# Altium integrated library Micron Memory DDR SDRAM.IntLib: 109 symbols (part 15 of 22)
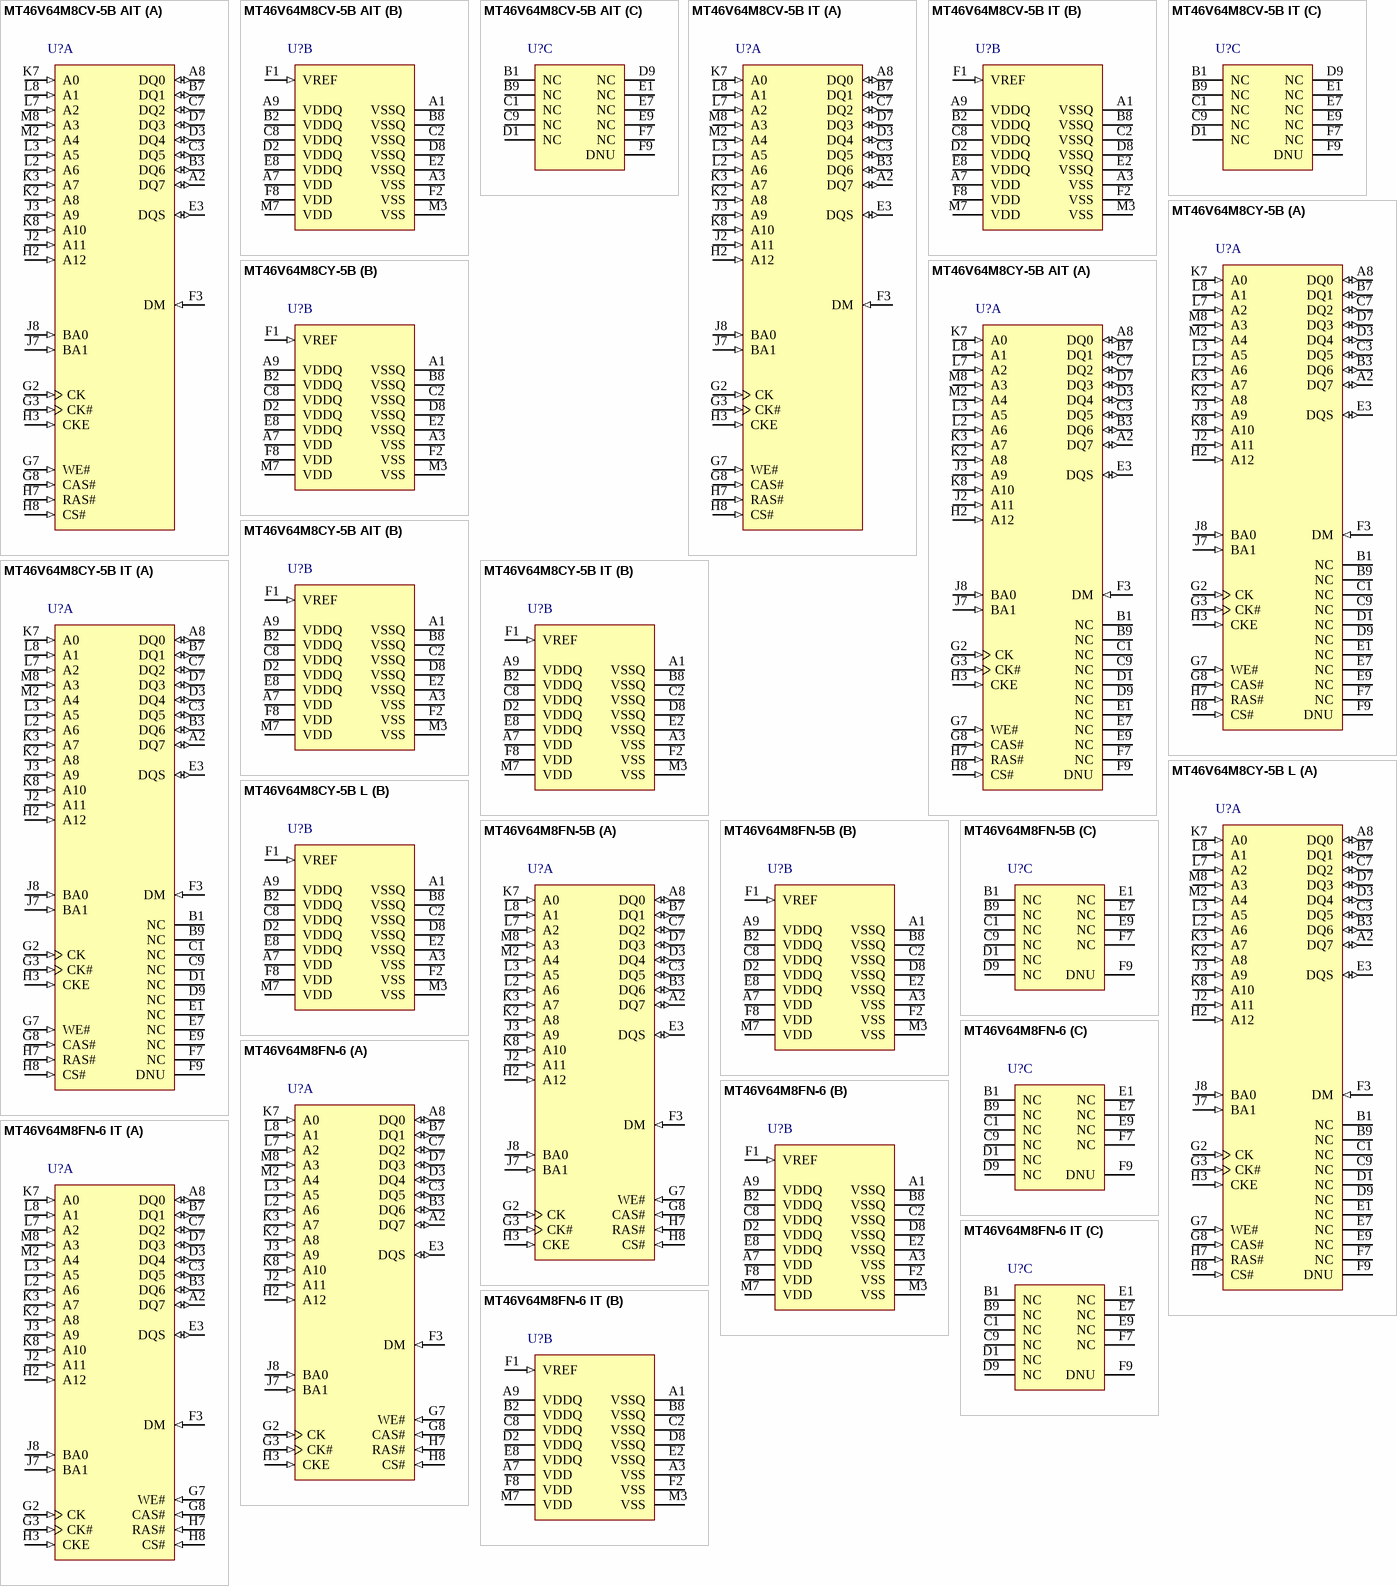
[diagram p27: symbols MT46V64M8CV-5B AIT to MT46V64M8FN-6 IT]

## MT46V64M8CY-5B IT
designator U?
512Mb 200MHz DDR SDRAM, 64Mb x 8, 5ns, 2.5V, -40 to 85 degC, 60-Ball FBGA, Pb-Free; Manufacturer: Micron; PartNumber: MT46V64M8CY-5B IT; Op. Temp.: -40C to +85C; DatasheetVersion: Rev.Q; PackageVersion: Rev.R; PackageReference: MICT-CY-60; PackageDescription: 60-Ball Fine-Pitch Ball Grid Array, 12.5 x 8 mm, Pitch 1 mm; Clock Rate: 200 MHz; Cycle Time: 5ns; Density: 512Mb; Depth: 64Mb; Package: FBGA; Part Status: Production; Pin Count: 60-ball; RoHS: Yes; Voltage: 2.5V; Width: x8; Mounting Technology: Surface Mount; ComponentLink1Description: Manufacturer URL; ComponentLink1URL: http://www.micron.com/; ComponentLink2Description: Datasheet; ComponentLink2URL: http://www.micron.com/~/media/Documents/Products/Data Sheet/DRAM/512Mb_DDR.pdf; ComponentLink3Description: Package Specification; ComponentLink3URL: http://www.micron.com/~/media/Documents/Products/Data%20Sheet/DRAM/256Mb_DDR.pdf
footprint MICT-CY-60 (BGA, 60-Balls, Body 12.5x8mm, Pitch(D) 1mm, Pitch(E) 0.8mm)
part A pins: A2 DQ7 (io) "Data input/output: Data bus for x8.", A8 DQ0 (io) "Data input/output: Data bus for x8.", B1 NC "No connect for x8: These pins should be left unconnected.", B3 DQ6 (io) "Data input/output: Data bus for x8.", B7 DQ1 (io) "Data input/output: Data bus for x8.", B9 NC "No connect for x8: These pins should be left unconnected.", C1 NC "No connect for x8: These pins should be left unconnected.", C3 DQ5 (io) "Data input/output: Data bus for x8.", C7 DQ2 (io) "Data input/output: Data bus for x8.", C9 NC "No connect for x8: These pins should be left unconnected.", D1 NC "No connect for x8: These pins should be left unconnected.", D3 DQ4 (io) "Data input/output: Data bus for x8.", D7 DQ3 (io) "Data input/output: Data bus for x8.", D9 NC "No connect for x8: These pins should be left unconnected.", E1 NC "No connect for x8: These pins should be left unconnected.", E3 DQS (io) "Data strobe: Output with read data, input with write data. DQS is edgealigned with read data, centered in write data. It is used to capture data. For the x16, LDQS is DQS for DQ[7:0] and UDQS is DQS for DQ[15:8]. Pin16 (E7) (See Datasheet)", E7 NC "No connect for x8: These pins should be left unconnected.", E9 NC "No connect for x8: These pins should be left unconnected.", F3 DM (in) "Input data mask: DM is an input mask signal for write data. Input data is masked when DM is sampled HIGH along with that input data during a write access. DM is sampled on both edges of DQS. Although DM pins are input-only, (See Datasheet)", F7 NC "No connect for x8: These pins should be left unconnected.", F9 DNU "Do not use: Must float to minimize noise on VREF.", G2 CK (in) "Clock: CK and CK# are differential clock inputs. All address and control input signals are sampled on the crossing of the positive edge of CK and negative edge of CK#. Output data (DQ and DQS) is referenced to the crossings (See Datasheet)", G3 CK# (in) "Clock: CK and CK# are differential clock inputs. All address and control input signals are sampled on the crossing of the positive edge of CK and negative edge of CK#. Output data (DQ and DQS) is referenced to the crossings (See Datasheet)", G7 WE# (in) "Command inputs: RAS#, CAS#, and WE# (along with CS#) define the command being entered.", G8 CAS# (in) "Command inputs: RAS#, CAS#, and WE# (along with CS#) define the command being entered.", H2 A12 (in) "Address inputs: Provide the row address for ACTIVE commands, and the column address and auto precharge bit (A10) for READ/WRITE commands, to select one location out of the memory array in the respective bank. A10 sampled (See Datasheet)", H3 CKE (in) "Clock enable: CKE HIGH activates and CKE LOW deactivates the internal clock, input buffers, and output drivers. Taking CKE LOW provides PRECHARGE POWER-DOWN and SELF REFRESH operations (all banksidle), or ACTIVE POWER-DOWN (See Datasheet)", H7 RAS# (in) "Command inputs: RAS#, CAS#, and WE# (along with CS#) define the command being entered.", H8 CS# (in) "Chip select: CS# enables (registered LOW) and disables (registered HIGH) the command decoder. All commands are masked when CS# is registered HIGH. CS# provides for external bank selection on systems with multiple banks. CS# (See Datasheet)", J2 A11 (in) "Address inputs: Provide the row address for ACTIVE commands, and the column address and auto precharge bit (A10) for READ/WRITE commands, to select one location out of the memory array in the respective bank. A10 sampled (See Datasheet)", J3 A9 (in) "Address inputs: Provide the row address for ACTIVE commands, and the column address and auto precharge bit (A10) for READ/WRITE commands, to select one location out of the memory array in the respective bank. A10 sampled (See Datasheet)", J7 BA1 (in) "Bank address inputs: BA0 and BA1 define to which bank an ACTIVE, READ, WRITE, or PRECHARGE command is being applied. BA0 and BA1 also define which mode register (mode register or extended mode register) is loaded during the (See Datasheet)", J8 BA0 (in) "Bank address inputs: BA0 and BA1 define to which bank an ACTIVE, READ, WRITE, or PRECHARGE command is being applied. BA0 and BA1 also define which mode register (mode register or extended mode register) is loaded during the (See Datasheet)", K2 A8 (in) "Address inputs: Provide the row address for ACTIVE commands, and the column address and auto precharge bit (A10) for READ/WRITE commands, to select one location out of the memory array in the respective bank. A10 sampled (See Datasheet)", K3 A7 (in) "Address inputs: Provide the row address for ACTIVE commands, and the column address and auto precharge bit (A10) for READ/WRITE commands, to select one location out of the memory array in the respective bank. A10 sampled (See Datasheet)", K7 A0 (in) "Address inputs: Provide the row address for ACTIVE commands, and the column address and auto precharge bit (A10) for READ/WRITE commands, to select one location out of the memory array in the respective bank. A10 sampled (See Datasheet)", K8 A10 (in) "Address inputs: Provide the row address for ACTIVE commands, and the column address and auto precharge bit (A10) for READ/WRITE commands, to select one location out of the memory array in the respective bank. A10 sampled (See Datasheet)", L2 A6 (in) "Address inputs: Provide the row address for ACTIVE commands, and the column address and auto precharge bit (A10) for READ/WRITE commands, to select one location out of the memory array in the respective bank. A10 sampled (See Datasheet)", L3 A5 (in) "Address inputs: Provide the row address for ACTIVE commands, and the column address and auto precharge bit (A10) for READ/WRITE commands, to select one location out of the memory array in the respective bank. A10 sampled (See Datasheet)", L7 A2 (in) "Address inputs: Provide the row address for ACTIVE commands, and the column address and auto precharge bit (A10) for READ/WRITE commands, to select one location out of the memory array in the respective bank. A10 sampled (See Datasheet)", L8 A1 (in) "Address inputs: Provide the row address for ACTIVE commands, and the column address and auto precharge bit (A10) for READ/WRITE commands, to select one location out of the memory array in the respective bank. A10 sampled (See Datasheet)", M2 A4 (in) "Address inputs: Provide the row address for ACTIVE commands, and the column address and auto precharge bit (A10) for READ/WRITE commands, to select one location out of the memory array in the respective bank. A10 sampled (See Datasheet)", M8 A3 (in) "Address inputs: Provide the row address for ACTIVE commands, and the column address and auto precharge bit (A10) for READ/WRITE commands, to select one location out of the memory array in the respective bank. A10 sampled (See Datasheet)"
part B pins: A1 VSSQ (power) "DQ ground: Isolated on the die for improved noise immunity.", A3 VSS (power) "Ground.", A7 VDD (power) "Power supply: 2.5V +/-0.2V. (2.6V +/-0.1V for DDR400).", A9 VDDQ (power) "DQ power supply: 2.5V +/-0.2V (2.6V +/-0.1V for DDR400). Isolated on the die for improved noise immunity.", B2 VDDQ (power) "DQ power supply: 2.5V +/-0.2V (2.6V +/-0.1V for DDR400). Isolated on the die for improved noise immunity.", B8 VSSQ (power) "DQ ground: Isolated on the die for improved noise immunity.", C2 VSSQ (power) "DQ ground: Isolated on the die for improved noise immunity.", C8 VDDQ (power) "DQ power supply: 2.5V +/-0.2V (2.6V +/-0.1V for DDR400). Isolated on the die for improved noise immunity.", D2 VDDQ (power) "DQ power supply: 2.5V +/-0.2V (2.6V +/-0.1V for DDR400). Isolated on the die for improved noise immunity.", D8 VSSQ (power) "DQ ground: Isolated on the die for improved noise immunity.", E2 VSSQ (power) "DQ ground: Isolated on the die for improved noise immunity.", E8 VDDQ (power) "DQ power supply: 2.5V +/-0.2V (2.6V +/-0.1V for DDR400). Isolated on the die for improved noise immunity.", F1 VREF (in) "SSTL_2 reference voltage.", F2 VSS (power) "Ground.", F8 VDD (power) "Power supply: 2.5V +/-0.2V. (2.6V +/-0.1V for DDR400).", M3 VSS (power) "Ground.", M7 VDD (power) "Power supply: 2.5V +/-0.2V. (2.6V +/-0.1V for DDR400)."

## MT46V64M8CY-5B L
designator U?
512Mb 200MHz DDR SDRAM, 64Mb x 8, 5ns, 2.5V, 0 to 70 degC, 60-Ball FBGA, Pb-Free; Manufacturer: Micron; PartNumber: MT46V64M8CY-5B L; Op. Temp.: 0C to +70C; DatasheetVersion: Rev.Q; PackageVersion: Rev.R; PackageReference: MICT-CY-60; PackageDescription: 60-Ball Fine-Pitch Ball Grid Array, 12.5 x 8 mm, Pitch 1 mm; Clock Rate: 200 MHz; Cycle Time: 5ns; Density: 512Mb; Depth: 64Mb; Package: FBGA; Part Status: Production; Pin Count: 60-ball; RoHS: Yes; Voltage: 2.5V; Width: x8; Mounting Technology: Surface Mount; ComponentLink1Description: Manufacturer URL; ComponentLink1URL: http://www.micron.com/; ComponentLink2Description: Datasheet; ComponentLink2URL: http://www.micron.com/~/media/Documents/Products/Data Sheet/DRAM/512Mb_DDR.pdf; ComponentLink3Description: Package Specification; ComponentLink3URL: http://www.micron.com/~/media/Documents/Products/Data%20Sheet/DRAM/256Mb_DDR.pdf
footprint MICT-CY-60 (BGA, 60-Balls, Body 12.5x8mm, Pitch(D) 1mm, Pitch(E) 0.8mm)
part A pins: A2 DQ7 (io) "Data input/output: Data bus for x8.", A8 DQ0 (io) "Data input/output: Data bus for x8.", B1 NC "No connect for x8: These pins should be left unconnected.", B3 DQ6 (io) "Data input/output: Data bus for x8.", B7 DQ1 (io) "Data input/output: Data bus for x8.", B9 NC "No connect for x8: These pins should be left unconnected.", C1 NC "No connect for x8: These pins should be left unconnected.", C3 DQ5 (io) "Data input/output: Data bus for x8.", C7 DQ2 (io) "Data input/output: Data bus for x8.", C9 NC "No connect for x8: These pins should be left unconnected.", D1 NC "No connect for x8: These pins should be left unconnected.", D3 DQ4 (io) "Data input/output: Data bus for x8.", D7 DQ3 (io) "Data input/output: Data bus for x8.", D9 NC "No connect for x8: These pins should be left unconnected.", E1 NC "No connect for x8: These pins should be left unconnected.", E3 DQS (io) "Data strobe: Output with read data, input with write data. DQS is edgealigned with read data, centered in write data. It is used to capture data. For the x16, LDQS is DQS for DQ[7:0] and UDQS is DQS for DQ[15:8]. Pin16 (E7) (See Datasheet)", E7 NC "No connect for x8: These pins should be left unconnected.", E9 NC "No connect for x8: These pins should be left unconnected.", F3 DM (in) "Input data mask: DM is an input mask signal for write data. Input data is masked when DM is sampled HIGH along with that input data during a write access. DM is sampled on both edges of DQS. Although DM pins are input-only, (See Datasheet)", F7 NC "No connect for x8: These pins should be left unconnected.", F9 DNU "Do not use: Must float to minimize noise on VREF.", G2 CK (in) "Clock: CK and CK# are differential clock inputs. All address and control input signals are sampled on the crossing of the positive edge of CK and negative edge of CK#. Output data (DQ and DQS) is referenced to the crossings (See Datasheet)", G3 CK# (in) "Clock: CK and CK# are differential clock inputs. All address and control input signals are sampled on the crossing of the positive edge of CK and negative edge of CK#. Output data (DQ and DQS) is referenced to the crossings (See Datasheet)", G7 WE# (in) "Command inputs: RAS#, CAS#, and WE# (along with CS#) define the command being entered.", G8 CAS# (in) "Command inputs: RAS#, CAS#, and WE# (along with CS#) define the command being entered.", H2 A12 (in) "Address inputs: Provide the row address for ACTIVE commands, and the column address and auto precharge bit (A10) for READ/WRITE commands, to select one location out of the memory array in the respective bank. A10 sampled (See Datasheet)", H3 CKE (in) "Clock enable: CKE HIGH activates and CKE LOW deactivates the internal clock, input buffers, and output drivers. Taking CKE LOW provides PRECHARGE POWER-DOWN and SELF REFRESH operations (all banksidle), or ACTIVE POWER-DOWN (See Datasheet)", H7 RAS# (in) "Command inputs: RAS#, CAS#, and WE# (along with CS#) define the command being entered.", H8 CS# (in) "Chip select: CS# enables (registered LOW) and disables (registered HIGH) the command decoder. All commands are masked when CS# is registered HIGH. CS# provides for external bank selection on systems with multiple banks. CS# (See Datasheet)", J2 A11 (in) "Address inputs: Provide the row address for ACTIVE commands, and the column address and auto precharge bit (A10) for READ/WRITE commands, to select one location out of the memory array in the respective bank. A10 sampled (See Datasheet)", J3 A9 (in) "Address inputs: Provide the row address for ACTIVE commands, and the column address and auto precharge bit (A10) for READ/WRITE commands, to select one location out of the memory array in the respective bank. A10 sampled (See Datasheet)", J7 BA1 (in) "Bank address inputs: BA0 and BA1 define to which bank an ACTIVE, READ, WRITE, or PRECHARGE command is being applied. BA0 and BA1 also define which mode register (mode register or extended mode register) is loaded during the (See Datasheet)", J8 BA0 (in) "Bank address inputs: BA0 and BA1 define to which bank an ACTIVE, READ, WRITE, or PRECHARGE command is being applied. BA0 and BA1 also define which mode register (mode register or extended mode register) is loaded during the (See Datasheet)", K2 A8 (in) "Address inputs: Provide the row address for ACTIVE commands, and the column address and auto precharge bit (A10) for READ/WRITE commands, to select one location out of the memory array in the respective bank. A10 sampled (See Datasheet)", K3 A7 (in) "Address inputs: Provide the row address for ACTIVE commands, and the column address and auto precharge bit (A10) for READ/WRITE commands, to select one location out of the memory array in the respective bank. A10 sampled (See Datasheet)", K7 A0 (in) "Address inputs: Provide the row address for ACTIVE commands, and the column address and auto precharge bit (A10) for READ/WRITE commands, to select one location out of the memory array in the respective bank. A10 sampled (See Datasheet)", K8 A10 (in) "Address inputs: Provide the row address for ACTIVE commands, and the column address and auto precharge bit (A10) for READ/WRITE commands, to select one location out of the memory array in the respective bank. A10 sampled (See Datasheet)", L2 A6 (in) "Address inputs: Provide the row address for ACTIVE commands, and the column address and auto precharge bit (A10) for READ/WRITE commands, to select one location out of the memory array in the respective bank. A10 sampled (See Datasheet)", L3 A5 (in) "Address inputs: Provide the row address for ACTIVE commands, and the column address and auto precharge bit (A10) for READ/WRITE commands, to select one location out of the memory array in the respective bank. A10 sampled (See Datasheet)", L7 A2 (in) "Address inputs: Provide the row address for ACTIVE commands, and the column address and auto precharge bit (A10) for READ/WRITE commands, to select one location out of the memory array in the respective bank. A10 sampled (See Datasheet)", L8 A1 (in) "Address inputs: Provide the row address for ACTIVE commands, and the column address and auto precharge bit (A10) for READ/WRITE commands, to select one location out of the memory array in the respective bank. A10 sampled (See Datasheet)", M2 A4 (in) "Address inputs: Provide the row address for ACTIVE commands, and the column address and auto precharge bit (A10) for READ/WRITE commands, to select one location out of the memory array in the respective bank. A10 sampled (See Datasheet)", M8 A3 (in) "Address inputs: Provide the row address for ACTIVE commands, and the column address and auto precharge bit (A10) for READ/WRITE commands, to select one location out of the memory array in the respective bank. A10 sampled (See Datasheet)"
part B pins: A1 VSSQ (power) "DQ ground: Isolated on the die for improved noise immunity.", A3 VSS (power) "Ground.", A7 VDD (power) "Power supply: 2.5V +/-0.2V. (2.6V +/-0.1V for DDR400).", A9 VDDQ (power) "DQ power supply: 2.5V +/-0.2V (2.6V +/-0.1V for DDR400). Isolated on the die for improved noise immunity.", B2 VDDQ (power) "DQ power supply: 2.5V +/-0.2V (2.6V +/-0.1V for DDR400). Isolated on the die for improved noise immunity.", B8 VSSQ (power) "DQ ground: Isolated on the die for improved noise immunity.", C2 VSSQ (power) "DQ ground: Isolated on the die for improved noise immunity.", C8 VDDQ (power) "DQ power supply: 2.5V +/-0.2V (2.6V +/-0.1V for DDR400). Isolated on the die for improved noise immunity.", D2 VDDQ (power) "DQ power supply: 2.5V +/-0.2V (2.6V +/-0.1V for DDR400). Isolated on the die for improved noise immunity.", D8 VSSQ (power) "DQ ground: Isolated on the die for improved noise immunity.", E2 VSSQ (power) "DQ ground: Isolated on the die for improved noise immunity.", E8 VDDQ (power) "DQ power supply: 2.5V +/-0.2V (2.6V +/-0.1V for DDR400). Isolated on the die for improved noise immunity.", F1 VREF (in) "SSTL_2 reference voltage.", F2 VSS (power) "Ground.", F8 VDD (power) "Power supply: 2.5V +/-0.2V. (2.6V +/-0.1V for DDR400).", M3 VSS (power) "Ground.", M7 VDD (power) "Power supply: 2.5V +/-0.2V. (2.6V +/-0.1V for DDR400)."

## MT46V64M8FN-5B
designator U?
512Mb 200MHz DDR SDRAM, 64Mb x 8, 5ns, 2.6V, 0 to 70 degC, 60-Ball FBGA; Manufacturer: Micron; PartNumber: MT46V64M8FN-5B; Op. Temp.: 0C to +70C; DatasheetVersion: Rev.Q; PackageVersion: Rev.F; PackageReference: MICT-FN-60; PackageDescription: 60-Ball Fine-Pitch Ball Grid Array, 12.5 x 10 mm, Pitch 1 mm; Clock Rate: 200 MHz; Cycle Time: 5ns; Density: 512Mb; Depth: 64Mb; Package: FBGA; Part Status: EOL Pending; Pin Count: 60-ball; RoHS: 5/6; Voltage: 2.6V; Width: x8; Mounting Technology: Surface Mount; ComponentLink1Description: Manufacturer URL; ComponentLink1URL: http://www.micron.com/; ComponentLink2Description: Datasheet; ComponentLink2URL: http://www.micron.com/~/media/Documents/Products/Data Sheet/DRAM/512Mb_DDR.pdf; ComponentLink3Description: Package Specification; ComponentLink3URL: http://www.micron.com/~/media/Documents/Products/Data Sheet/DRAM/512Mb_DDR.pdf
footprint MICT-FN-60 (BGA, 60-Balls, Body 10x12.5mm, Pitch 1mm)
part A pins: A2 DQ7 (io) "Data input/output: Data bus for x8.", A8 DQ0 (io) "Data input/output: Data bus for x8.", B3 DQ6 (io) "Data input/output: Data bus for x8.", B7 DQ1 (io) "Data input/output: Data bus for x8.", C3 DQ5 (io) "Data input/output: Data bus for x8.", C7 DQ2 (io) "Data input/output: Data bus for x8.", D3 DQ4 (io) "Data input/output: Data bus for x8.", D7 DQ3 (io) "Data input/output: Data bus for x8.", E3 DQS (io) "Data strobe: Output with read data, input with write data. DQS is edgealigned with read data, centered in write data. It is used to capture data. For the x16, LDQS is DQS for DQ[7:0] and UDQS is DQS for DQ[15:8]. Pin 16 (E7) (See Datasheet)", F3 DM (in) "Input data mask: DM is an input mask signal for write data. Input data is masked when DM is sampled HIGH along with that input data during a write access. DM is sampled on both edges of DQS. Although DM pins are input-only, (See Datasheet)", G2 CK (in) "Clock: CK and CK# are differential clock inputs. All address and control input signals are sampled on the crossing of the positive edge of CK and negative edge of CK#. Output data (DQ and DQS) is referenced to the crossings (See Datasheet)", G3 CK# (in) "Clock: CK and CK# are differential clock inputs. All address and control input signals are sampled on the crossing of the positive edge of CK and negative edge of CK#. Output data (DQ and DQS) is referenced to the crossings (See Datasheet)", G7 WE# (in) "Command inputs: RAS#, CAS#, and WE# (along with CS#) define the command being entered.", G8 CAS# (in) "Command inputs: RAS#, CAS#, and WE# (along with CS#) define the command being entered.", H2 A12 (in) "Address inputs: Provide the row address for ACTIVE commands, and the column address and auto precharge bit (A10) for READ/WRITE commands, to select one location out of the memory array in the respective bank. A10 sampled (See Datasheet)", H3 CKE (in) "Clock enable: CKE HIGH activates and CKE LOW deactivates the internal clock, input buffers, and output drivers. Taking CKE LOW provides PRECHARGE POWER-DOWN and SELF REFRESH operations (all banks idle), or ACTIVE POWER-DOWN (See Datasheet)", H7 RAS# (in) "Command inputs: RAS#, CAS#, and WE# (along with CS#) define the command being entered.", H8 CS# (in) "Chip select: CS# enables (registered LOW) and disables (registered HIGH) the command decoder. All commands are masked when CS# is registered HIGH. CS# provides for external bank selection on systems with multiple banks. CS# (See Datasheet)", J2 A11 (in) "Address inputs: Provide the row address for ACTIVE commands, and the column address and auto precharge bit (A10) for READ/WRITE commands, to select one location out of the memory array in the respective bank. A10 sampled (See Datasheet)", J3 A9 (in) "Address inputs: Provide the row address for ACTIVE commands, and the column address and auto precharge bit (A10) for READ/WRITE commands, to select one location out of the memory array in the respective bank. A10 sampled (See Datasheet)", J7 BA1 (in) "Bank address inputs: BA0 and BA1 define to which bank an ACTIVE, READ, WRITE, or PRECHARGE command is being applied. BA0 and BA1 also define which mode register (mode register or extended mode register) is loaded during the (See Datasheet)", J8 BA0 (in) "Bank address inputs: BA0 and BA1 define to which bank an ACTIVE, READ, WRITE, or PRECHARGE command is being applied. BA0 and BA1 also define which mode register (mode register or extended mode register) is loaded during the (See Datasheet)", K2 A8 (in) "Address inputs: Provide the row address for ACTIVE commands, and the column address and auto precharge bit (A10) for READ/WRITE commands, to select one location out of the memory array in the respective bank. A10 sampled (See Datasheet)", K3 A7 (in) "Address inputs: Provide the row address for ACTIVE commands, and the column address and auto precharge bit (A10) for READ/WRITE commands, to select one location out of the memory array in the respective bank. A10 sampled (See Datasheet)", K7 A0 (in) "Address inputs: Provide the row address for ACTIVE commands, and the column address and auto precharge bit (A10) for READ/WRITE commands, to select one location out of the memory array in the respective bank. A10 sampled (See Datasheet)", K8 A10 (in) "Address inputs: Provide the row address for ACTIVE commands, and the column address and auto precharge bit (A10) for READ/WRITE commands, to select one location out of the memory array in the respective bank. A10 sampled (See Datasheet)", L2 A6 (in) "Address inputs: Provide the row address for ACTIVE commands, and the column address and auto precharge bit (A10) for READ/WRITE commands, to select one location out of the memory array in the respective bank. A10 sampled (See Datasheet)", L3 A5 (in) "Address inputs: Provide the row address for ACTIVE commands, and the column address and auto precharge bit (A10) for READ/WRITE commands, to select one location out of the memory array in the respective bank. A10 sampled (See Datasheet)", L7 A2 (in) "Address inputs: Provide the row address for ACTIVE commands, and the column address and auto precharge bit (A10) for READ/WRITE commands, to select one location out of the memory array in the respective bank. A10 sampled (See Datasheet)", L8 A1 (in) "Address inputs: Provide the row address for ACTIVE commands, and the column address and auto precharge bit (A10) for READ/WRITE commands, to select one location out of the memory array in the respective bank. A10 sampled (See Datasheet)", M2 A4 (in) "Address inputs: Provide the row address for ACTIVE commands, and the column address and auto precharge bit (A10) for READ/WRITE commands, to select one location out of the memory array in the respective bank. A10 sampled (See Datasheet)", M8 A3 (in) "Address inputs: Provide the row address for ACTIVE commands, and the column address and auto precharge bit (A10) for READ/WRITE commands, to select one location out of the memory array in the respective bank. A10 sampled (See Datasheet)"
part B pins: A1 VSSQ (power) "DQ ground: Isolated on the die for improved noise immunity.", A3 VSS (power) "Ground.", A7 VDD (power) "Power supply: 2.5V +/-0.2V. (2.6V +/-0.1V for DDR400).", A9 VDDQ (power) "DQ power supply: 2.5V +/-0.2V (2.6V +/-0.1V for DDR400). Isolated on the die for improved noise immunity.", B2 VDDQ (power) "DQ power supply: 2.5V +/-0.2V (2.6V +/-0.1V for DDR400). Isolated on the die for improved noise immunity.", B8 VSSQ (power) "DQ ground: Isolated on the die for improved noise immunity.", C2 VSSQ (power) "DQ ground: Isolated on the die for improved noise immunity.", C8 VDDQ (power) "DQ power supply: 2.5V +/-0.2V (2.6V +/-0.1V for DDR400). Isolated on the die for improved noise immunity.", D2 VDDQ (power) "DQ power supply: 2.5V +/-0.2V (2.6V +/-0.1V for DDR400). Isolated on the die for improved noise immunity.", D8 VSSQ (power) "DQ ground: Isolated on the die for improved noise immunity.", E2 VSSQ (power) "DQ ground: Isolated on the die for improved noise immunity.", E8 VDDQ (power) "DQ power supply: 2.5V +/-0.2V (2.6V +/-0.1V for DDR400). Isolated on the die for improved noise immunity.", F1 VREF (in) "SSTL_2 reference voltage.", F2 VSS (power) "Ground.", F8 VDD (power) "Power supply: 2.5V +/-0.2V. (2.6V +/-0.1V for DDR400).", M3 VSS (power) "Ground.", M7 VDD (power) "Power supply: 2.5V +/-0.2V. (2.6V +/-0.1V for DDR400)."
part C pins: B1 NC "No connect for x8: These pins should be left unconnected.", B9 NC "No connect for x8: These pins should be left unconnected.", C1 NC "No connect for x8: These pins should be left unconnected.", C9 NC "No connect for x8: These pins should be left unconnected.", D1 NC "No connect for x8: These pins should be left unconnected.", D9 NC "No connect for x8: These pins should be left unconnected.", E1 NC "No connect for x8: These pins should be left unconnected.", E7 NC "No connect for x8: These pins should be left unconnected.", E9 NC "No connect for x8: These pins should be left unconnected.", F7 NC "No connect for x8: These pins should be left unconnected.", F9 DNU "Do not use: Must float to minimize noise on VREF."

## MT46V64M8FN-6
designator U?
512Mb 167MHz DDR SDRAM, 64Mb x 8, 6ns, 2.5V, 0 to 70 degC, 60-Ball FBGA; Manufacturer: Micron; PartNumber: MT46V64M8FN-6; Op. Temp.: 0C to +70C; DatasheetVersion: Rev.Q; PackageVersion: Rev.F; PackageReference: MICT-FN-60; PackageDescription: 60-Ball Fine-Pitch Ball Grid Array, 12.5 x 10 mm, Pitch 1 mm; Clock Rate: 167 MHz; Cycle Time: 6ns; Density: 512Mb; Depth: 64Mb; Package: FBGA; Part Status: EOL Pending; Pin Count: 60-ball; RoHS: 5/6; Voltage: 2.5V; Width: x8; Mounting Technology: Surface Mount; ComponentLink1Description: Manufacturer URL; ComponentLink1URL: http://www.micron.com/; ComponentLink2Description: Datasheet; ComponentLink2URL: http://www.micron.com/~/media/Documents/Products/Data Sheet/DRAM/512Mb_DDR.pdf; ComponentLink3Description: Package Specification; ComponentLink3URL: http://www.micron.com/~/media/Documents/Products/Data Sheet/DRAM/512Mb_DDR.pdf
footprint MICT-FN-60 (BGA, 60-Balls, Body 10x12.5mm, Pitch 1mm)
part A pins: A2 DQ7 (io) "Data input/output: Data bus for x8.", A8 DQ0 (io) "Data input/output: Data bus for x8.", B3 DQ6 (io) "Data input/output: Data bus for x8.", B7 DQ1 (io) "Data input/output: Data bus for x8.", C3 DQ5 (io) "Data input/output: Data bus for x8.", C7 DQ2 (io) "Data input/output: Data bus for x8.", D3 DQ4 (io) "Data input/output: Data bus for x8.", D7 DQ3 (io) "Data input/output: Data bus for x8.", E3 DQS (io) "Data strobe: Output with read data, input with write data. DQS is edgealigned with read data, centered in write data. It is used to capture data. For the x16, LDQS is DQS for DQ[7:0] and UDQS is DQS for DQ[15:8]. Pin 16 (E7) (See Datasheet)", F3 DM (in) "Input data mask: DM is an input mask signal for write data. Input data is masked when DM is sampled HIGH along with that input data during a write access. DM is sampled on both edges of DQS. Although DM pins are input-only, (See Datasheet)", G2 CK (in) "Clock: CK and CK# are differential clock inputs. All address and control input signals are sampled on the crossing of the positive edge of CK and negative edge of CK#. Output data (DQ and DQS) is referenced to the crossings (See Datasheet)", G3 CK# (in) "Clock: CK and CK# are differential clock inputs. All address and control input signals are sampled on the crossing of the positive edge of CK and negative edge of CK#. Output data (DQ and DQS) is referenced to the crossings (See Datasheet)", G7 WE# (in) "Command inputs: RAS#, CAS#, and WE# (along with CS#) define the command being entered.", G8 CAS# (in) "Command inputs: RAS#, CAS#, and WE# (along with CS#) define the command being entered.", H2 A12 (in) "Address inputs: Provide the row address for ACTIVE commands, and the column address and auto precharge bit (A10) for READ/WRITE commands, to select one location out of the memory array in the respective bank. A10 sampled (See Datasheet)", H3 CKE (in) "Clock enable: CKE HIGH activates and CKE LOW deactivates the internal clock, input buffers, and output drivers. Taking CKE LOW provides PRECHARGE POWER-DOWN and SELF REFRESH operations (all banks idle), or ACTIVE POWER-DOWN (See Datasheet)", H7 RAS# (in) "Command inputs: RAS#, CAS#, and WE# (along with CS#) define the command being entered.", H8 CS# (in) "Chip select: CS# enables (registered LOW) and disables (registered HIGH) the command decoder. All commands are masked when CS# is registered HIGH. CS# provides for external bank selection on systems with multiple banks. CS# (See Datasheet)", J2 A11 (in) "Address inputs: Provide the row address for ACTIVE commands, and the column address and auto precharge bit (A10) for READ/WRITE commands, to select one location out of the memory array in the respective bank. A10 sampled (See Datasheet)", J3 A9 (in) "Address inputs: Provide the row address for ACTIVE commands, and the column address and auto precharge bit (A10) for READ/WRITE commands, to select one location out of the memory array in the respective bank. A10 sampled (See Datasheet)", J7 BA1 (in) "Bank address inputs: BA0 and BA1 define to which bank an ACTIVE, READ, WRITE, or PRECHARGE command is being applied. BA0 and BA1 also define which mode register (mode register or extended mode register) is loaded during the (See Datasheet)", J8 BA0 (in) "Bank address inputs: BA0 and BA1 define to which bank an ACTIVE, READ, WRITE, or PRECHARGE command is being applied. BA0 and BA1 also define which mode register (mode register or extended mode register) is loaded during the (See Datasheet)", K2 A8 (in) "Address inputs: Provide the row address for ACTIVE commands, and the column address and auto precharge bit (A10) for READ/WRITE commands, to select one location out of the memory array in the respective bank. A10 sampled (See Datasheet)", K3 A7 (in) "Address inputs: Provide the row address for ACTIVE commands, and the column address and auto precharge bit (A10) for READ/WRITE commands, to select one location out of the memory array in the respective bank. A10 sampled (See Datasheet)", K7 A0 (in) "Address inputs: Provide the row address for ACTIVE commands, and the column address and auto precharge bit (A10) for READ/WRITE commands, to select one location out of the memory array in the respective bank. A10 sampled (See Datasheet)", K8 A10 (in) "Address inputs: Provide the row address for ACTIVE commands, and the column address and auto precharge bit (A10) for READ/WRITE commands, to select one location out of the memory array in the respective bank. A10 sampled (See Datasheet)", L2 A6 (in) "Address inputs: Provide the row address for ACTIVE commands, and the column address and auto precharge bit (A10) for READ/WRITE commands, to select one location out of the memory array in the respective bank. A10 sampled (See Datasheet)", L3 A5 (in) "Address inputs: Provide the row address for ACTIVE commands, and the column address and auto precharge bit (A10) for READ/WRITE commands, to select one location out of the memory array in the respective bank. A10 sampled (See Datasheet)", L7 A2 (in) "Address inputs: Provide the row address for ACTIVE commands, and the column address and auto precharge bit (A10) for READ/WRITE commands, to select one location out of the memory array in the respective bank. A10 sampled (See Datasheet)", L8 A1 (in) "Address inputs: Provide the row address for ACTIVE commands, and the column address and auto precharge bit (A10) for READ/WRITE commands, to select one location out of the memory array in the respective bank. A10 sampled (See Datasheet)", M2 A4 (in) "Address inputs: Provide the row address for ACTIVE commands, and the column address and auto precharge bit (A10) for READ/WRITE commands, to select one location out of the memory array in the respective bank. A10 sampled (See Datasheet)", M8 A3 (in) "Address inputs: Provide the row address for ACTIVE commands, and the column address and auto precharge bit (A10) for READ/WRITE commands, to select one location out of the memory array in the respective bank. A10 sampled (See Datasheet)"
part B pins: A1 VSSQ (power) "DQ ground: Isolated on the die for improved noise immunity.", A3 VSS (power) "Ground.", A7 VDD (power) "Power supply: 2.5V +/-0.2V. (2.6V +/-0.1V for DDR400).", A9 VDDQ (power) "DQ power supply: 2.5V +/-0.2V (2.6V +/-0.1V for DDR400). Isolated on the die for improved noise immunity.", B2 VDDQ (power) "DQ power supply: 2.5V +/-0.2V (2.6V +/-0.1V for DDR400). Isolated on the die for improved noise immunity.", B8 VSSQ (power) "DQ ground: Isolated on the die for improved noise immunity.", C2 VSSQ (power) "DQ ground: Isolated on the die for improved noise immunity.", C8 VDDQ (power) "DQ power supply: 2.5V +/-0.2V (2.6V +/-0.1V for DDR400). Isolated on the die for improved noise immunity.", D2 VDDQ (power) "DQ power supply: 2.5V +/-0.2V (2.6V +/-0.1V for DDR400). Isolated on the die for improved noise immunity.", D8 VSSQ (power) "DQ ground: Isolated on the die for improved noise immunity.", E2 VSSQ (power) "DQ ground: Isolated on the die for improved noise immunity.", E8 VDDQ (power) "DQ power supply: 2.5V +/-0.2V (2.6V +/-0.1V for DDR400). Isolated on the die for improved noise immunity.", F1 VREF (in) "SSTL_2 reference voltage.", F2 VSS (power) "Ground.", F8 VDD (power) "Power supply: 2.5V +/-0.2V. (2.6V +/-0.1V for DDR400).", M3 VSS (power) "Ground.", M7 VDD (power) "Power supply: 2.5V +/-0.2V. (2.6V +/-0.1V for DDR400)."
part C pins: B1 NC "No connect for x8: These pins should be left unconnected.", B9 NC "No connect for x8: These pins should be left unconnected.", C1 NC "No connect for x8: These pins should be left unconnected.", C9 NC "No connect for x8: These pins should be left unconnected.", D1 NC "No connect for x8: These pins should be left unconnected.", D9 NC "No connect for x8: These pins should be left unconnected.", E1 NC "No connect for x8: These pins should be left unconnected.", E7 NC "No connect for x8: These pins should be left unconnected.", E9 NC "No connect for x8: These pins should be left unconnected.", F7 NC "No connect for x8: These pins should be left unconnected.", F9 DNU "Do not use: Must float to minimize noise on VREF."

## MT46V64M8FN-6 IT
designator U?
512Mb 167MHz DDR SDRAM, 64Mb x 8, 6ns, 2.5V, -40 to 85 degC, 60-Ball FBGA; Manufacturer: Micron; PartNumber: MT46V64M8FN-6 IT; Op. Temp.: -40C to +85C; DatasheetVersion: Rev.Q; PackageVersion: Rev.F; PackageReference: MICT-FN-60; PackageDescription: 60-Ball Fine-Pitch Ball Grid Array, 12.5 x 10 mm, Pitch 1 mm; Clock Rate: 167 MHz; Cycle Time: 6ns; Density: 512Mb; Depth: 64Mb; Package: FBGA; Part Status: EOL Pending; Pin Count: 60-ball; RoHS: 5/6; Voltage: 2.5V; Width: x8; Mounting Technology: Surface Mount; ComponentLink1Description: Manufacturer URL; ComponentLink1URL: http://www.micron.com/; ComponentLink2Description: Datasheet; ComponentLink2URL: http://www.micron.com/~/media/Documents/Products/Data Sheet/DRAM/512Mb_DDR.pdf; ComponentLink3Description: Package Specification; ComponentLink3URL: http://www.micron.com/~/media/Documents/Products/Data Sheet/DRAM/512Mb_DDR.pdf
footprint MICT-FN-60 (BGA, 60-Balls, Body 10x12.5mm, Pitch 1mm)
part A pins: A2 DQ7 (io) "Data input/output: Data bus for x8.", A8 DQ0 (io) "Data input/output: Data bus for x8.", B3 DQ6 (io) "Data input/output: Data bus for x8.", B7 DQ1 (io) "Data input/output: Data bus for x8.", C3 DQ5 (io) "Data input/output: Data bus for x8.", C7 DQ2 (io) "Data input/output: Data bus for x8.", D3 DQ4 (io) "Data input/output: Data bus for x8.", D7 DQ3 (io) "Data input/output: Data bus for x8.", E3 DQS (io) "Data strobe: Output with read data, input with write data. DQS is edgealigned with read data, centered in write data. It is used to capture data. For the x16, LDQS is DQS for DQ[7:0] and UDQS is DQS for DQ[15:8]. Pin 16 (E7) (See Datasheet)", F3 DM (in) "Input data mask: DM is an input mask signal for write data. Input data is masked when DM is sampled HIGH along with that input data during a write access. DM is sampled on both edges of DQS. Although DM pins are input-only, (See Datasheet)", G2 CK (in) "Clock: CK and CK# are differential clock inputs. All address and control input signals are sampled on the crossing of the positive edge of CK and negative edge of CK#. Output data (DQ and DQS) is referenced to the crossings (See Datasheet)", G3 CK# (in) "Clock: CK and CK# are differential clock inputs. All address and control input signals are sampled on the crossing of the positive edge of CK and negative edge of CK#. Output data (DQ and DQS) is referenced to the crossings (See Datasheet)", G7 WE# (in) "Command inputs: RAS#, CAS#, and WE# (along with CS#) define the command being entered.", G8 CAS# (in) "Command inputs: RAS#, CAS#, and WE# (along with CS#) define the command being entered.", H2 A12 (in) "Address inputs: Provide the row address for ACTIVE commands, and the column address and auto precharge bit (A10) for READ/WRITE commands, to select one location out of the memory array in the respective bank. A10 sampled (See Datasheet)", H3 CKE (in) "Clock enable: CKE HIGH activates and CKE LOW deactivates the internal clock, input buffers, and output drivers. Taking CKE LOW provides PRECHARGE POWER-DOWN and SELF REFRESH operations (all banks idle), or ACTIVE POWER-DOWN (See Datasheet)", H7 RAS# (in) "Command inputs: RAS#, CAS#, and WE# (along with CS#) define the command being entered.", H8 CS# (in) "Chip select: CS# enables (registered LOW) and disables (registered HIGH) the command decoder. All commands are masked when CS# is registered HIGH. CS# provides for external bank selection on systems with multiple banks. CS# (See Datasheet)", J2 A11 (in) "Address inputs: Provide the row address for ACTIVE commands, and the column address and auto precharge bit (A10) for READ/WRITE commands, to select one location out of the memory array in the respective bank. A10 sampled (See Datasheet)", J3 A9 (in) "Address inputs: Provide the row address for ACTIVE commands, and the column address and auto precharge bit (A10) for READ/WRITE commands, to select one location out of the memory array in the respective bank. A10 sampled (See Datasheet)", J7 BA1 (in) "Bank address inputs: BA0 and BA1 define to which bank an ACTIVE, READ, WRITE, or PRECHARGE command is being applied. BA0 and BA1 also define which mode register (mode register or extended mode register) is loaded during the (See Datasheet)", J8 BA0 (in) "Bank address inputs: BA0 and BA1 define to which bank an ACTIVE, READ, WRITE, or PRECHARGE command is being applied. BA0 and BA1 also define which mode register (mode register or extended mode register) is loaded during the (See Datasheet)", K2 A8 (in) "Address inputs: Provide the row address for ACTIVE commands, and the column address and auto precharge bit (A10) for READ/WRITE commands, to select one location out of the memory array in the respective bank. A10 sampled (See Datasheet)", K3 A7 (in) "Address inputs: Provide the row address for ACTIVE commands, and the column address and auto precharge bit (A10) for READ/WRITE commands, to select one location out of the memory array in the respective bank. A10 sampled (See Datasheet)", K7 A0 (in) "Address inputs: Provide the row address for ACTIVE commands, and the column address and auto precharge bit (A10) for READ/WRITE commands, to select one location out of the memory array in the respective bank. A10 sampled (See Datasheet)", K8 A10 (in) "Address inputs: Provide the row address for ACTIVE commands, and the column address and auto precharge bit (A10) for READ/WRITE commands, to select one location out of the memory array in the respective bank. A10 sampled (See Datasheet)", L2 A6 (in) "Address inputs: Provide the row address for ACTIVE commands, and the column address and auto precharge bit (A10) for READ/WRITE commands, to select one location out of the memory array in the respective bank. A10 sampled (See Datasheet)", L3 A5 (in) "Address inputs: Provide the row address for ACTIVE commands, and the column address and auto precharge bit (A10) for READ/WRITE commands, to select one location out of the memory array in the respective bank. A10 sampled (See Datasheet)", L7 A2 (in) "Address inputs: Provide the row address for ACTIVE commands, and the column address and auto precharge bit (A10) for READ/WRITE commands, to select one location out of the memory array in the respective bank. A10 sampled (See Datasheet)", L8 A1 (in) "Address inputs: Provide the row address for ACTIVE commands, and the column address and auto precharge bit (A10) for READ/WRITE commands, to select one location out of the memory array in the respective bank. A10 sampled (See Datasheet)", M2 A4 (in) "Address inputs: Provide the row address for ACTIVE commands, and the column address and auto precharge bit (A10) for READ/WRITE commands, to select one location out of the memory array in the respective bank. A10 sampled (See Datasheet)", M8 A3 (in) "Address inputs: Provide the row address for ACTIVE commands, and the column address and auto precharge bit (A10) for READ/WRITE commands, to select one location out of the memory array in the respective bank. A10 sampled (See Datasheet)"
part B pins: A1 VSSQ (power) "DQ ground: Isolated on the die for improved noise immunity.", A3 VSS (power) "Ground.", A7 VDD (power) "Power supply: 2.5V +/-0.2V. (2.6V +/-0.1V for DDR400).", A9 VDDQ (power) "DQ power supply: 2.5V +/-0.2V (2.6V +/-0.1V for DDR400). Isolated on the die for improved noise immunity.", B2 VDDQ (power) "DQ power supply: 2.5V +/-0.2V (2.6V +/-0.1V for DDR400). Isolated on the die for improved noise immunity.", B8 VSSQ (power) "DQ ground: Isolated on the die for improved noise immunity.", C2 VSSQ (power) "DQ ground: Isolated on the die for improved noise immunity.", C8 VDDQ (power) "DQ power supply: 2.5V +/-0.2V (2.6V +/-0.1V for DDR400). Isolated on the die for improved noise immunity.", D2 VDDQ (power) "DQ power supply: 2.5V +/-0.2V (2.6V +/-0.1V for DDR400). Isolated on the die for improved noise immunity.", D8 VSSQ (power) "DQ ground: Isolated on the die for improved noise immunity.", E2 VSSQ (power) "DQ ground: Isolated on the die for improved noise immunity.", E8 VDDQ (power) "DQ power supply: 2.5V +/-0.2V (2.6V +/-0.1V for DDR400). Isolated on the die for improved noise immunity.", F1 VREF (in) "SSTL_2 reference voltage.", F2 VSS (power) "Ground.", F8 VDD (power) "Power supply: 2.5V +/-0.2V. (2.6V +/-0.1V for DDR400).", M3 VSS (power) "Ground.", M7 VDD (power) "Power supply: 2.5V +/-0.2V. (2.6V +/-0.1V for DDR400)."
part C pins: B1 NC "No connect for x8: These pins should be left unconnected.", B9 NC "No connect for x8: These pins should be left unconnected.", C1 NC "No connect for x8: These pins should be left unconnected.", C9 NC "No connect for x8: These pins should be left unconnected.", D1 NC "No connect for x8: These pins should be left unconnected.", D9 NC "No connect for x8: These pins should be left unconnected.", E1 NC "No connect for x8: These pins should be left unconnected.", E7 NC "No connect for x8: These pins should be left unconnected.", E9 NC "No connect for x8: These pins should be left unconnected.", F7 NC "No connect for x8: These pins should be left unconnected.", F9 DNU "Do not use: Must float to minimize noise on VREF."

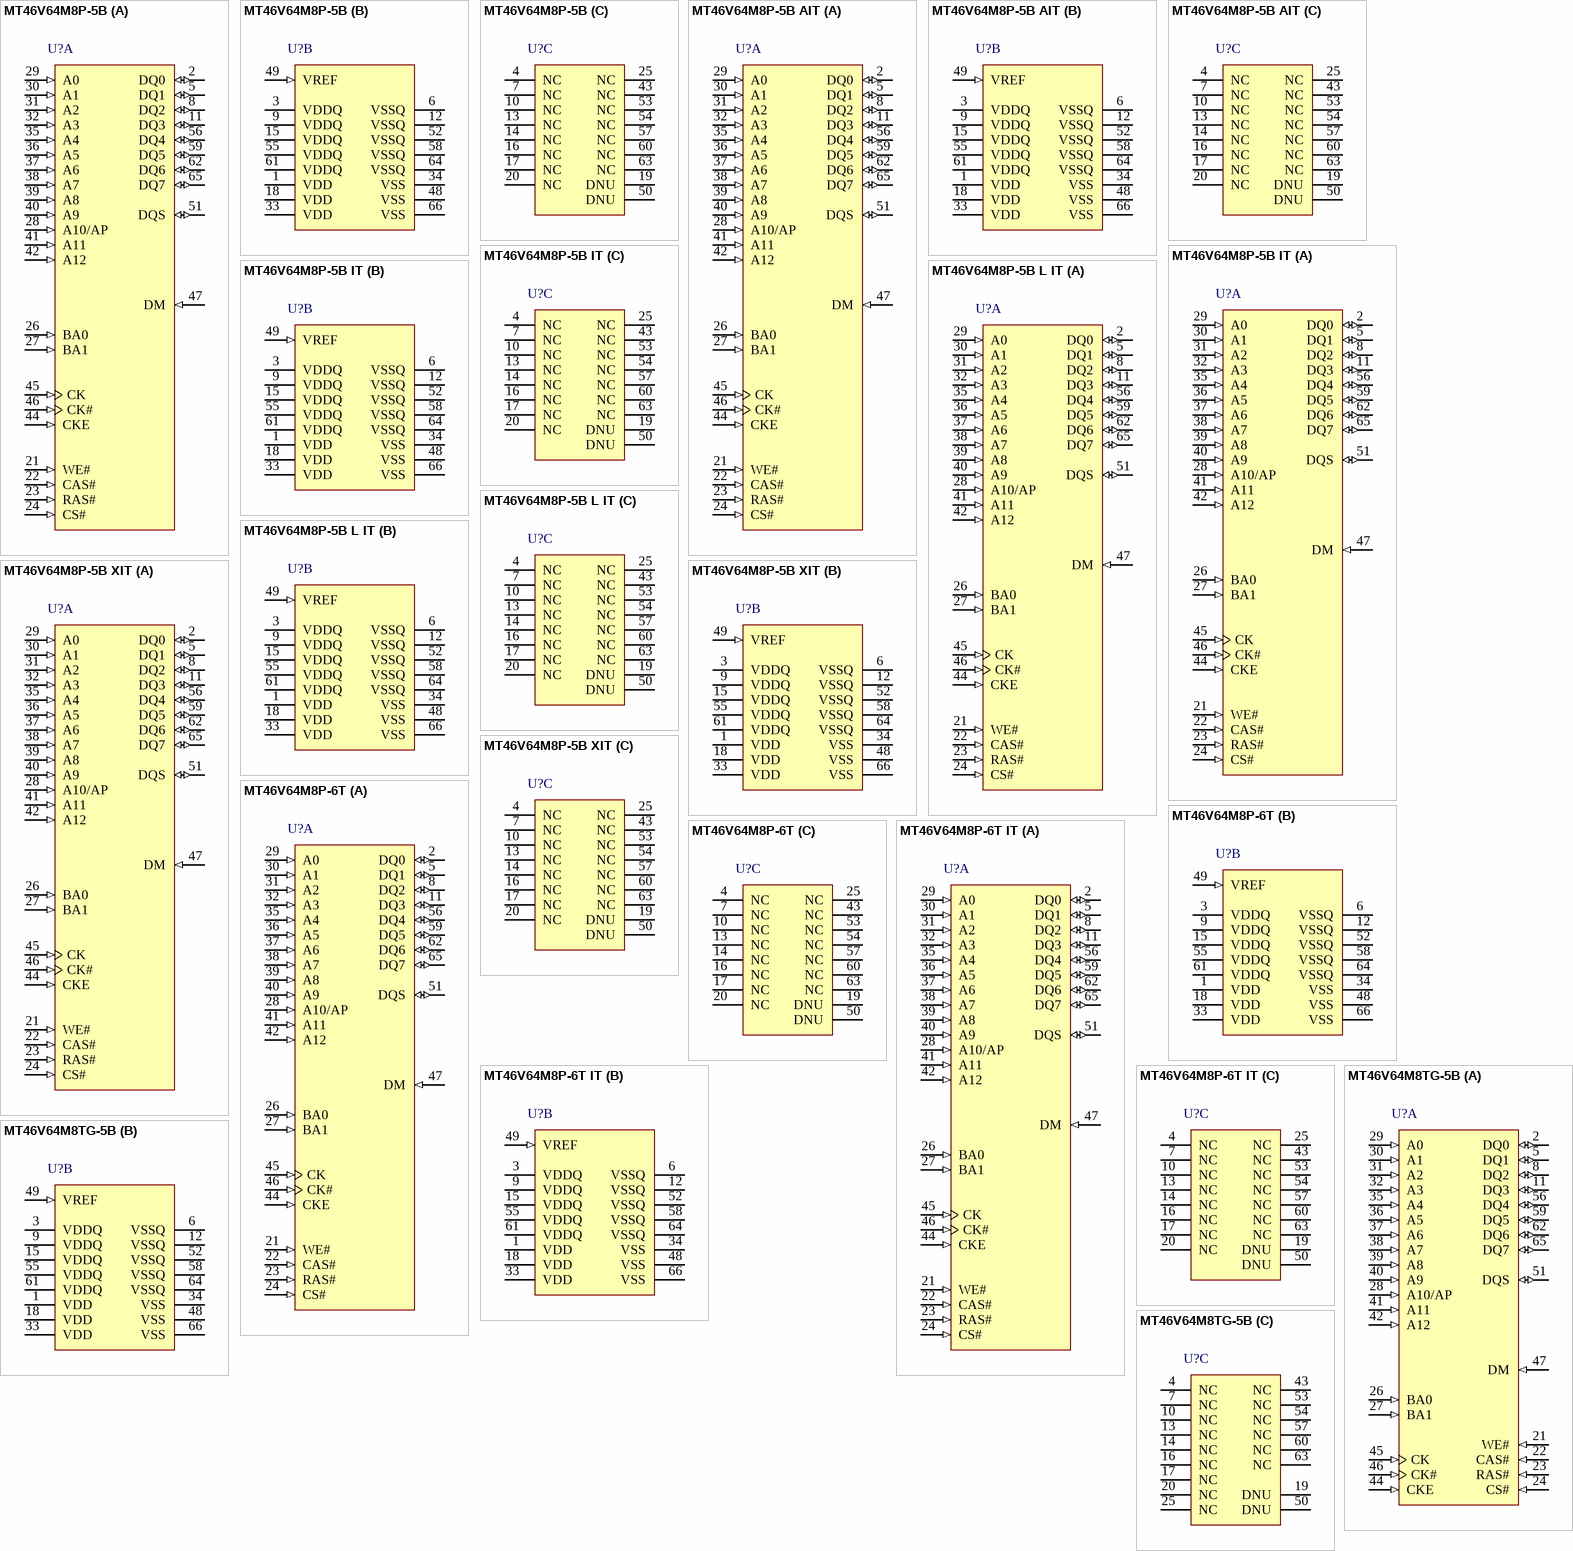
[diagram p9: symbols MT46V64M8P-5B to MT46V64M8TG-5B]